# Altium footprint library PQFN50P300X300X80-16N.PcbLib: 1 footprints
Each footprint in its own frame and in the unit in brackets; x right, y up, seen from the top. Pads: shape width x height; smd on the part's side, far side on the other; paste and mask are expansions set on the pad; w line width, h text height; cw(c..) or ccw(c..) is an arc to the next point about the centre after c.
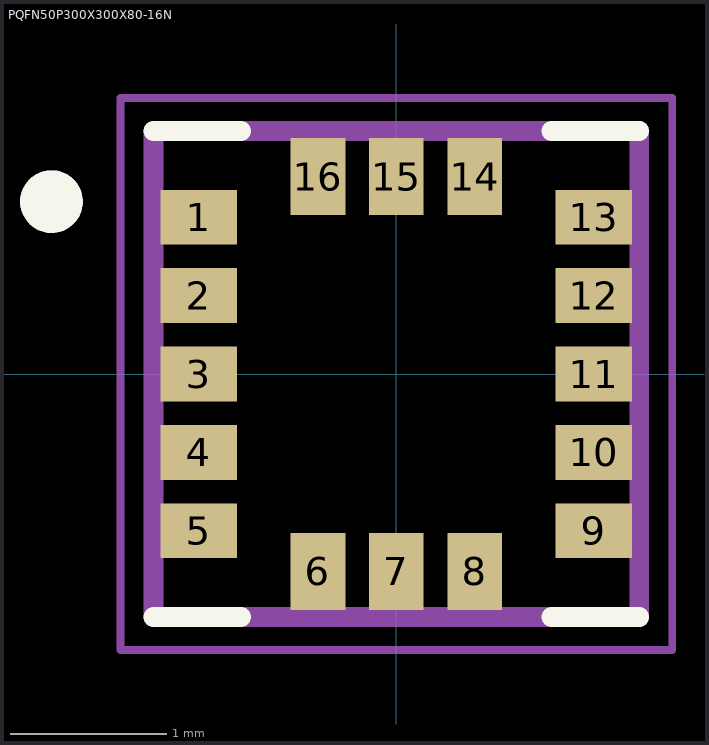
[diagram p0: the footprint, top view; thin cyan lines are the x and y axes]

## PQFN50P300X300X80-16N [mm]
pads (16):
  rect 0.49x0.35 smd: 1(-1.26,1) 2(-1.26,0.5) 3(-1.26,0) 4(-1.26,-0.5) 5(-1.26,-1) 9(1.26,-1) 10(1.26,-0.5) 11(1.26,0) 12(1.26,0.5) 13(1.26,1)
  rect 0.35x0.49 smd: 6(-0.5,-1.26) 7(0,-1.26) 8(0.5,-1.26) 14(0.5,1.26) 15(0,1.26) 16(-0.5,1.26)
Top Overlay:
  circle w0.2: c-2.2,1.1 r0.1
  lines w0.127: -1.55,-1.55 -0.99,-1.55 ; -1.55,1.55 -0.99,1.55 ; 0.99,-1.55 1.55,-1.55 ; 0.99,1.55 1.55,1.55
Mechanical 13:
  circle w0.2: c-2.2,1.1 r0.1
  lines w0.127: -1.55,-1.55 -1.55,1.55 1.55,1.55 1.55,-1.55 -1.55,-1.55
Mechanical 15:
  lines w0.05: -1.76,-1.76 -1.76,1.76 1.76,1.76 1.76,-1.76 -1.76,-1.76
3D body "step_temp.STEP": height 0.8, standoff 0, extent -1.5,-1.5 1.5,1.5